# EAGLE library part ISL43485IBZ (library Intersil_By_element14_Batch_1)
Half Duplex, 30Mbps, RS-485/RS-422 Transceiver
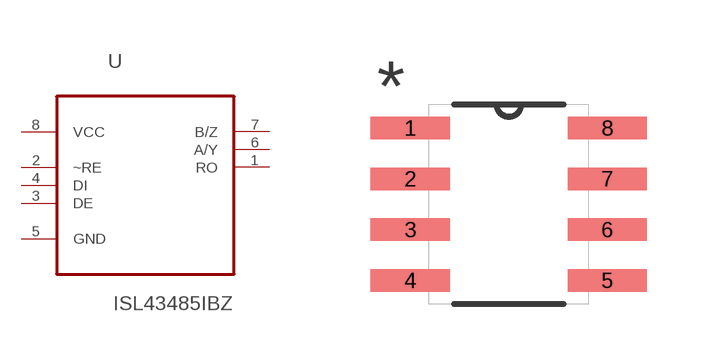
[diagram p219: symbol with the pads of SOIC127P600X175-8N; footprint SOIC127P600X175-8N]

Designator prefix U

## ISL43485IBZ (MPN: ISL43485IBZ; OC_FARNELL: 1562054; OC_NEWARK: 57K3935; PACKAGE: 8-SOIC; SUPPLIER: Intersil)  [SOIC127P600X175-8N]
1  RO  out
2  ~RE  in
3  DE  in
4  DI  in
5  GND  pas
6  A/Y
7  B/Z
8  VCC  pwr

## Footprint SOIC127P600X175-8N (pad centres in mm)
smd 1.981 x 0.559: 1 -2.464,1.905; 2 -2.464,0.635; 3 -2.464,-0.635; 4 -2.464,-1.905; 5 2.464,-1.905; 6 2.464,-0.635; 7 2.464,0.635; 8 2.464,1.905